# EAGLE library part 4056 (library microcodes)
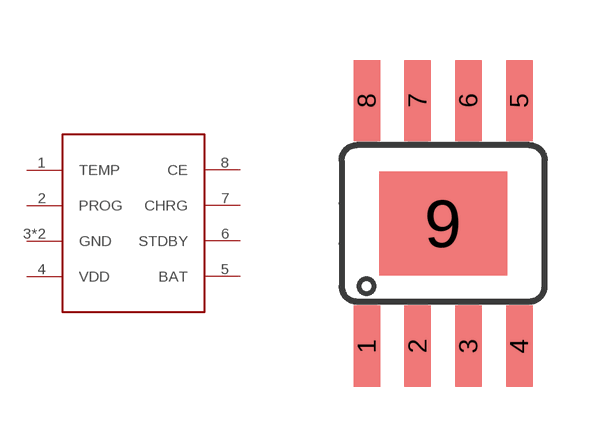
[diagram p11: symbol with the pads of ESOP8; footprint ESOP8]

Designator prefix -

## 4056  [ESOP8]
1  TEMP
2  PROG
3  GND
4  VDD
5  BAT
6  STDBY
7  CHRG
8  CE
9  GND

## Footprint ESOP8 (pad centres in mm)
SOIC 150 mil. based on soic8 footprint from the maxim library. I've added the dissipation pad as per datasheet, changed tPlace elements, named the pins and fixed a weird misalignment on the third pin of the bottom row which I suppose it was the designer's signature.
smd 0.66 x 2.032: 1 -1.905,-3.073; 2 -0.635,-3.073; 3 0.635,-3.073; 4 1.905,-3.073; 5 1.905,3.073; 6 0.635,3.073; 7 -0.635,3.073; 8 -1.905,3.073
smd 3.2 x 2.6: 9 0,0